# Altium footprint library CAP_330uF_450V.PcbLib: 1 footprints
Each footprint in its own frame and in the unit in brackets; x right, y up, seen from the top. Pads: shape width x height; smd on the part's side, far side on the other; paste and mask are expansions set on the pad; w line width, h text height; cw(c..) or ccw(c..) is an arc to the next point about the centre after c.
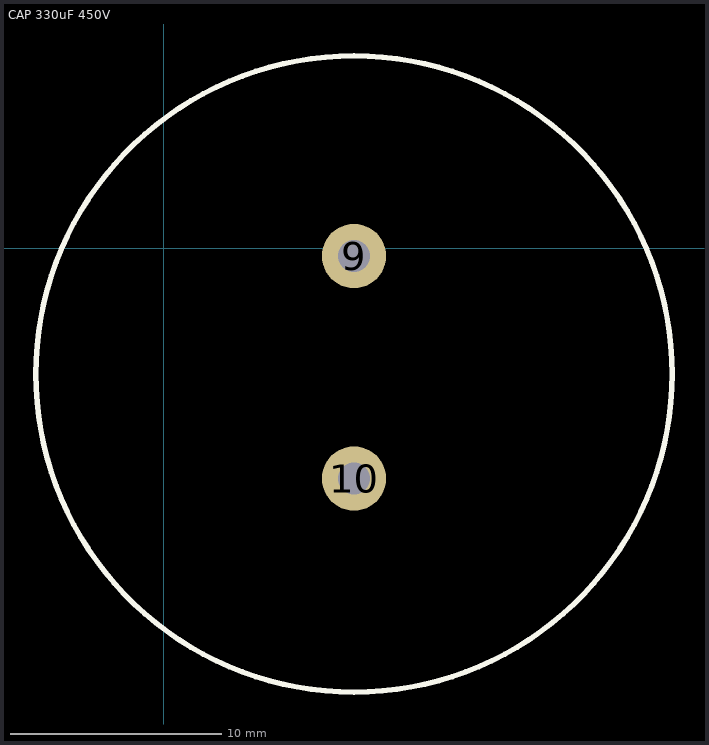
[diagram p0: the footprint, top view; thin cyan lines are the x and y axes]

## CAP 330uF 450V [mil]
pads (2):
  round 120 hole 60: 9(355,-15) 10(355,-430)
Top Overlay:
  circle w10: c355,-235 r593.51
3D body "Yadacon 450V 330uF CD29H.STEP": height 2040.05, standoff -215.85, extent -239.49,-818.43 951.45,374.49